# Altium schematic symbol library SCH - MCU - STM32 - ST MICROELECTRONICS STM32WB05KZVx VFQFPN32.SchLib: 1 symbol
Pins are listed as number, name and electrical type; pins without a type are passive.

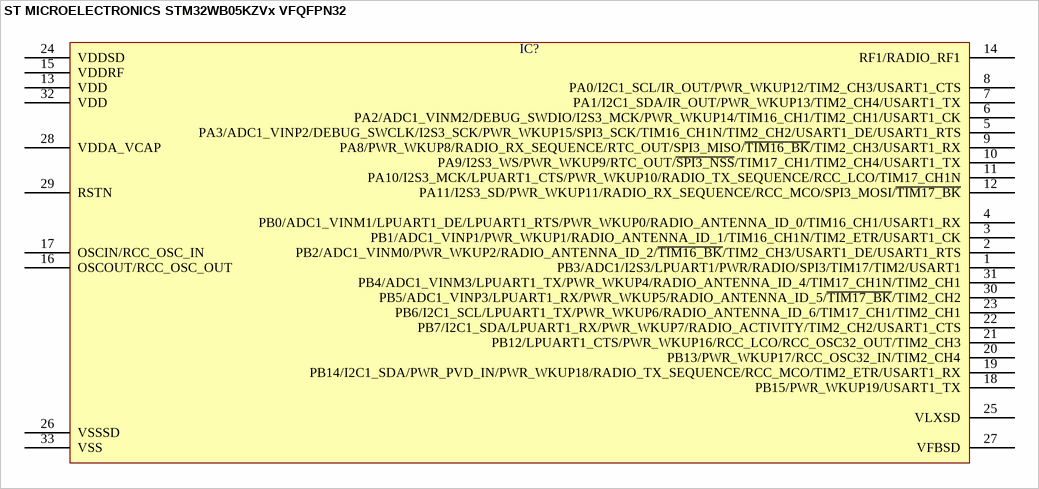
[diagram p0: symbol ST MICROELECTRONICS STM32WB05KZVx VFQFPN32]

## ST MICROELECTRONICS STM32WB05KZVx VFQFPN32
designator IC?
pins: 1 PB3/ADC1/I2S3/LPUART1/PWR/RADIO/SPI3/TIM17/TIM2/USART1, 2 PB2/ADC1_VINM0/PWR_WKUP2/RADIO_ANTENNA_ID_2/~{TIM16_BK}/TIM2_CH3/USART1_DE/USART1_RTS, 3 PB1/ADC1_VINP1/PWR_WKUP1/RADIO_ANTENNA_ID_1/TIM16_CH1N/TIM2_ETR/USART1_CK, 4 PB0/ADC1_VINM1/LPUART1_DE/LPUART1_RTS/PWR_WKUP0/RADIO_ANTENNA_ID_0/TIM16_CH1/USART1_RX, 5 PA3/ADC1_VINP2/DEBUG_SWCLK/I2S3_SCK/PWR_WKUP15/SPI3_SCK/TIM16_CH1N/TIM2_CH2/USART1_DE/USART1_RTS, 6 PA2/ADC1_VINM2/DEBUG_SWDIO/I2S3_MCK/PWR_WKUP14/TIM16_CH1/TIM2_CH1/USART1_CK, 7 PA1/I2C1_SDA/IR_OUT/PWR_WKUP13/TIM2_CH4/USART1_TX, 8 PA0/I2C1_SCL/IR_OUT/PWR_WKUP12/TIM2_CH3/USART1_CTS, 9 PA8/PWR_WKUP8/RADIO_RX_SEQUENCE/RTC_OUT/SPI3_MISO/~{TIM16_BK}/TIM2_CH3/USART1_RX, 10 PA9/I2S3_WS/PWR_WKUP9/RTC_OUT/~{SPI3_NSS}/TIM17_CH1/TIM2_CH4/USART1_TX, 11 PA10/I2S3_MCK/LPUART1_CTS/PWR_WKUP10/RADIO_TX_SEQUENCE/RCC_LCO/TIM17_CH1N, 12 PA11/I2S3_SD/PWR_WKUP11/RADIO_RX_SEQUENCE/RCC_MCO/SPI3_MOSI/~{TIM17_BK}, 13 VDD, 14 RF1/RADIO_RF1, 15 VDDRF, 16 OSCOUT/RCC_OSC_OUT, 17 OSCIN/RCC_OSC_IN, 18 PB15/PWR_WKUP19/USART1_TX, 19 PB14/I2C1_SDA/PWR_PVD_IN/PWR_WKUP18/RADIO_TX_SEQUENCE/RCC_MCO/TIM2_ETR/USART1_RX, 20 PB13/PWR_WKUP17/RCC_OSC32_IN/TIM2_CH4, 21 PB12/LPUART1_CTS/PWR_WKUP16/RCC_LCO/RCC_OSC32_OUT/TIM2_CH3, 22 PB7/I2C1_SDA/LPUART1_RX/PWR_WKUP7/RADIO_ACTIVITY/TIM2_CH2/USART1_CTS, 23 PB6/I2C1_SCL/LPUART1_TX/PWR_WKUP6/RADIO_ANTENNA_ID_6/TIM17_CH1/TIM2_CH1, 24 VDDSD, 25 VLXSD, 26 VSSSD, 27 VFBSD, 28 VDDA_VCAP, 29 RSTN, 30 PB5/ADC1_VINP3/LPUART1_RX/PWR_WKUP5/RADIO_ANTENNA_ID_5/~{TIM17_BK}/TIM2_CH2, 31 PB4/ADC1_VINM3/LPUART1_TX/PWR_WKUP4/RADIO_ANTENNA_ID_4/TIM17_CH1N/TIM2_CH1, 32 VDD, 33 VSS